# Altium schematic symbol library diode_7.Schlib: 1 symbol
Pins are listed as number, name and electrical type; pins without a type are passive.

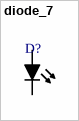
[diagram p0: symbol diode_7]

## diode_7
designator D?  (value not drawn)
single LED, 4 leads, anode: 2, cathode: 4
pins: 2, 4